# Altium schematic symbol library SCH - DRIVER - BD62130AEFJ-E2.SCHLIB: 1 symbol
Pins are listed as number, name and electrical type; pins without a type are passive.

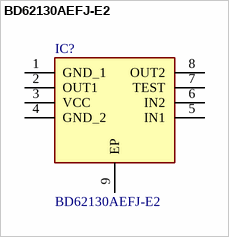
[diagram p0: symbol BD62130AEFJ-E2]

## BD62130AEFJ-E2
designator IC?
Integrated Circuit
pins: 1 GND_1, 2 OUT1, 3 VCC, 4 GND_2, 5 IN1, 6 IN2, 7 TEST, 8 OUT2, 9 EP